# Altium integrated library Analog Devices Operational Amplifiers.IntLib: 2102 symbols (part 64 of 70)
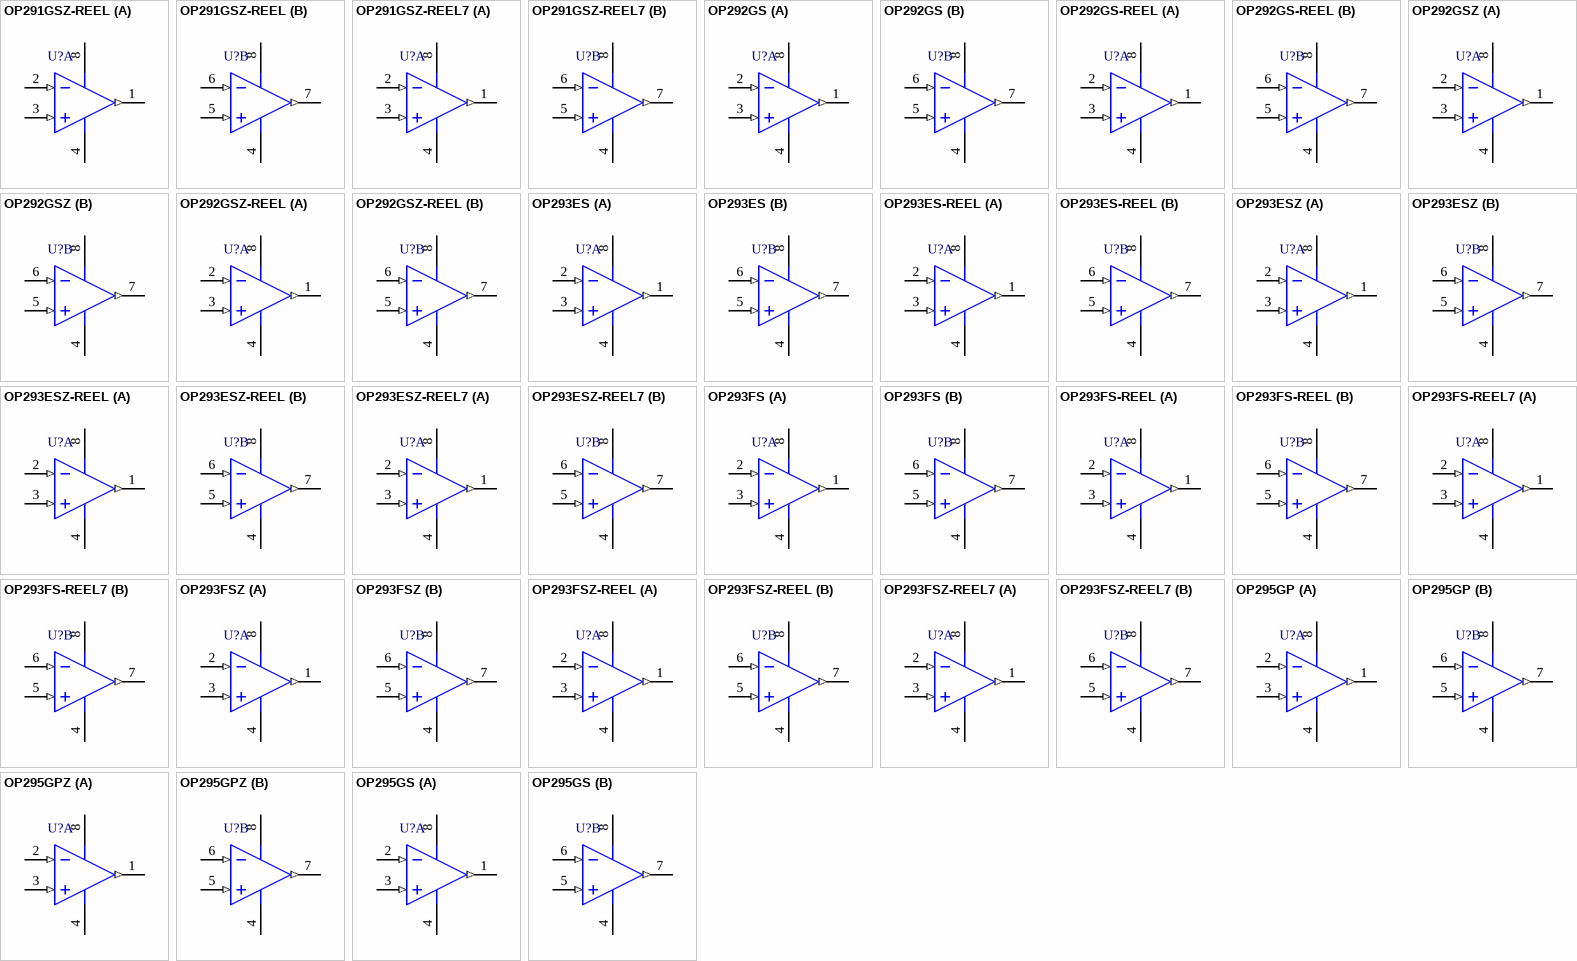
[diagram p177: symbols OP291GSZ-REEL to OP295GS]

## OP292GS-REEL
designator U?
Double Channel Single-Supply Operation Operational Amplifier, 4 MHz BW, 4 V/us SR, Industrial, 8-pin SOIC (R-8), Reel; Generic Part Number: OP292; Manufacturer: Analog Devices; PartNumber: OP292GS-REEL; Amplifiers Per Package: 2; Input Bias Current: 375nA; Input Offset Voltage: 1mV; Iq/Amp: 1.4mA; Slew Rate: 4V/us; Small Signal Bandwidth: 4MHz; V Span Max: 33V; V Span Min: 4.5V; DatasheetVersion: Rev. C; PackageVersion: 060506-A; PackageReference: R-8; PackageDescription: 8-Pin Standard Small Outline Package, Body 3.9 x 4.9 mm, Pitch 1.27 mm; Supplier 1: Digi-Key; Supplier Part Number 1: OP292GS-REEL-ND; Supplier 2: Newark; Supplier Part Number 2: 02H2604; Mounting Technology: Surface Mount; Code_JEDEC: MS-012-AA; ComponentLink1Description: Manufacturer URL; ComponentLink1URL: http://www.analog.com/en/index.html; ComponentLink2Description: Datasheet; ComponentLink2URL: http://www.analog.com/static/imported-files/data_sheets/OP292_492.pdf; ComponentLink3Description: Package Specification; ComponentLink3URL: http://www.analog.com/static/imported-files/packages/PKG_PDF/SOIC_Narrow%20(R)/R_8.pdf
footprint ADI-R-8_N (SOIC, 8-Leads, Body 4.9x3.9mm, Pitch 1.27mm, IPC Medium Density)
footprint ADI-R-8_L (SOIC, 8-Leads, Body 4.9x3.9mm, Pitch 1.27mm, IPC High Density)
footprint ADI-R-8_M (SOIC, 8-Leads, Body 4.9x3.9mm, Pitch 1.27mm, IPC Low Density)
pins on every part: 4 -V (power), 8 +V (power)
part A pins: 1 OUT A (out), 2 -IN A (in), 3 +IN A (in)
part B pins: 5 +IN B (in), 6 -IN B (in), 7 OUT B (out)

## OP292GSZ
designator U?
Double Channel Single-Supply Operation Operational Amplifier, 4 MHz BW, 4 V/us SR, Industrial, 8-pin SOIC (R-8), Tube; Generic Part Number: OP292; Manufacturer: Analog Devices; PartNumber: OP292GSZ; Amplifiers Per Package: 2; Input Bias Current: 375nA; Input Offset Voltage: 1mV; Iq/Amp: 1.4mA; Slew Rate: 4V/us; Small Signal Bandwidth: 4MHz; V Span Max: 33V; V Span Min: 4.5V; DatasheetVersion: Rev. C; PackageVersion: 060506-A; PackageReference: R-8; PackageDescription: 8-Pin Standard Small Outline Package, Body 3.9 x 4.9 mm, Pitch 1.27 mm; Supplier 1: Digi-Key; Supplier Part Number 1: OP292GSZ-ND; Supplier 2: Newark; Supplier Part Number 2: 59K8859; Mounting Technology: Surface Mount; Code_JEDEC: MS-012-AA; ComponentLink1Description: Manufacturer URL; ComponentLink1URL: http://www.analog.com/en/index.html; ComponentLink2Description: Datasheet; ComponentLink2URL: http://www.analog.com/static/imported-files/data_sheets/OP292_492.pdf; ComponentLink3Description: Package Specification; ComponentLink3URL: http://www.analog.com/static/imported-files/packages/PKG_PDF/SOIC_Narrow%20(R)/R_8.pdf
footprint ADI-R-8_N (SOIC, 8-Leads, Body 4.9x3.9mm, Pitch 1.27mm, IPC Medium Density)
footprint ADI-R-8_L (SOIC, 8-Leads, Body 4.9x3.9mm, Pitch 1.27mm, IPC High Density)
footprint ADI-R-8_M (SOIC, 8-Leads, Body 4.9x3.9mm, Pitch 1.27mm, IPC Low Density)
pins on every part: 4 -V (power), 8 +V (power)
part A pins: 1 OUT A (out), 2 -IN A (in), 3 +IN A (in)
part B pins: 5 +IN B (in), 6 -IN B (in), 7 OUT B (out)

## OP292GSZ-REEL
designator U?
Double Channel Single-Supply Operation Operational Amplifier, 4 MHz BW, 4 V/us SR, Industrial, 8-pin SOIC (R-8), Reel; Generic Part Number: OP292; Manufacturer: Analog Devices; PartNumber: OP292GSZ-REEL; Amplifiers Per Package: 2; Input Bias Current: 375nA; Input Offset Voltage: 1mV; Iq/Amp: 1.4mA; Slew Rate: 4V/us; Small Signal Bandwidth: 4MHz; V Span Max: 33V; V Span Min: 4.5V; DatasheetVersion: Rev. C; PackageVersion: 060506-A; PackageReference: R-8; PackageDescription: 8-Pin Standard Small Outline Package, Body 3.9 x 4.9 mm, Pitch 1.27 mm; Supplier 1: Digi-Key; Supplier Part Number 1: OP292GSZ-REEL-ND; Mounting Technology: Surface Mount; Code_JEDEC: MS-012-AA; ComponentLink1Description: Manufacturer URL; ComponentLink1URL: http://www.analog.com/en/index.html; ComponentLink2Description: Datasheet; ComponentLink2URL: http://www.analog.com/static/imported-files/data_sheets/OP292_492.pdf; ComponentLink3Description: Package Specification; ComponentLink3URL: http://www.analog.com/static/imported-files/packages/PKG_PDF/SOIC_Narrow%20(R)/R_8.pdf
footprint ADI-R-8_N (SOIC, 8-Leads, Body 4.9x3.9mm, Pitch 1.27mm, IPC Medium Density)
footprint ADI-R-8_L (SOIC, 8-Leads, Body 4.9x3.9mm, Pitch 1.27mm, IPC High Density)
footprint ADI-R-8_M (SOIC, 8-Leads, Body 4.9x3.9mm, Pitch 1.27mm, IPC Low Density)
pins on every part: 4 -V (power), 8 +V (power)
part A pins: 1 OUT A (out), 2 -IN A (in), 3 +IN A (in)
part B pins: 5 +IN B (in), 6 -IN B (in), 7 OUT B (out)

## OP293ES
designator U?
Double Channel Single-Supply Operation Operational Amplifier, 35 KHz BW, 15 mV/us SR, Industrial, 8-pin SOIC (R-8), Tube; Generic Part Number: OP293; Manufacturer: Analog Devices; PartNumber: OP293ES; Amplifiers Per Package: 2; Input Bias Current: 15nA; Input Offset Voltage: 100uV; Iq/Amp: 30uA; Small Signal Bandwidth: 35KHz; V Span Max: 36V; V Span Min: 1.7V; DatasheetVersion: Rev. C; PackageVersion: 060506-A; PackageReference: R-8; PackageDescription: 8-Pin Standard Small Outline Package, Body 3.9 x 4.9 mm, Pitch 1.27 mm; Supplier 1: Digi-Key; Supplier Part Number 1: OP293ES-ND; Slew Rate: 15mV/us; Mounting Technology: Surface Mount; Code_JEDEC: MS-012-AA; ComponentLink1Description: Manufacturer URL; ComponentLink1URL: http://www.analog.com/en/index.html; ComponentLink2Description: Datasheet; ComponentLink2URL: http://www.analog.com/static/imported-files/data_sheets/OP193_293.pdf; ComponentLink3Description: Package Specification; ComponentLink3URL: http://www.analog.com/static/imported-files/packages/PKG_PDF/SOIC_Narrow%20(R)/R_8.pdf; ComponentLink4Description: Reference Circuit; ComponentLink4URL: http://www.analog.com/en/all-operational-amplifiers-op-amps/operational-amplifiers-op-amps/op293/products/product.html#product-recommendations
footprint ADI-R-8_N (SOIC, 8-Leads, Body 4.9x3.9mm, Pitch 1.27mm, IPC Medium Density)
footprint ADI-R-8_L (SOIC, 8-Leads, Body 4.9x3.9mm, Pitch 1.27mm, IPC High Density)
footprint ADI-R-8_M (SOIC, 8-Leads, Body 4.9x3.9mm, Pitch 1.27mm, IPC Low Density)
pins on every part: 4 -V (power), 8 +V (power)
part A pins: 1 OUT A (out), 2 -IN A (in), 3 +IN A (in)
part B pins: 5 +IN B (in), 6 -IN B (in), 7 OUT B (out)

## OP293ES-REEL
designator U?
Double Channel Single-Supply Operation Operational Amplifier, 35 KHz BW, 15 mV/us SR, Industrial, 8-pin SOIC (R-8), Reel; Generic Part Number: OP293; Manufacturer: Analog Devices; PartNumber: OP293ES-REEL; Amplifiers Per Package: 2; Input Bias Current: 15nA; Input Offset Voltage: 100uV; Iq/Amp: 30uA; Small Signal Bandwidth: 35KHz; V Span Max: 36V; V Span Min: 1.7V; DatasheetVersion: Rev. C; PackageVersion: 060506-A; PackageReference: R-8; PackageDescription: 8-Pin Standard Small Outline Package, Body 3.9 x 4.9 mm, Pitch 1.27 mm; Supplier 1: Digi-Key; Supplier Part Number 1: OP293ES-REEL-ND; Slew Rate: 15mV/us; Mounting Technology: Surface Mount; Code_JEDEC: MS-012-AA; ComponentLink1Description: Manufacturer URL; ComponentLink1URL: http://www.analog.com/en/index.html; ComponentLink2Description: Datasheet; ComponentLink2URL: http://www.analog.com/static/imported-files/data_sheets/OP193_293.pdf; ComponentLink3Description: Package Specification; ComponentLink3URL: http://www.analog.com/static/imported-files/packages/PKG_PDF/SOIC_Narrow%20(R)/R_8.pdf; ComponentLink4Description: Reference Circuit; ComponentLink4URL: http://www.analog.com/en/all-operational-amplifiers-op-amps/operational-amplifiers-op-amps/op293/products/product.html#product-recommendations
footprint ADI-R-8_N (SOIC, 8-Leads, Body 4.9x3.9mm, Pitch 1.27mm, IPC Medium Density)
footprint ADI-R-8_L (SOIC, 8-Leads, Body 4.9x3.9mm, Pitch 1.27mm, IPC High Density)
footprint ADI-R-8_M (SOIC, 8-Leads, Body 4.9x3.9mm, Pitch 1.27mm, IPC Low Density)
pins on every part: 4 -V (power), 8 +V (power)
part A pins: 1 OUT A (out), 2 -IN A (in), 3 +IN A (in)
part B pins: 5 +IN B (in), 6 -IN B (in), 7 OUT B (out)

## OP293ESZ
designator U?
Double Channel Single-Supply Operation Operational Amplifier, 35 KHz BW, 15 mV/us SR, Industrial, 8-pin SOIC (R-8), Tube; Generic Part Number: OP293; Manufacturer: Analog Devices; PartNumber: OP293ESZ; Amplifiers Per Package: 2; Input Bias Current: 15nA; Input Offset Voltage: 100uV; Iq/Amp: 30uA; Small Signal Bandwidth: 35KHz; V Span Max: 36V; V Span Min: 1.7V; DatasheetVersion: Rev. C; PackageVersion: 060506-A; PackageReference: R-8; PackageDescription: 8-Pin Standard Small Outline Package, Body 3.9 x 4.9 mm, Pitch 1.27 mm; Supplier 1: Digi-Key; Supplier Part Number 1: OP293ESZ-ND; Supplier 2: Farnell; Supplier Part Number 2: 1364836; Supplier 3: Newark; Supplier Part Number 3: 59K8861; Slew Rate: 15mV/us; Mounting Technology: Surface Mount; Code_JEDEC: MS-012-AA; ComponentLink1Description: Manufacturer URL; ComponentLink1URL: http://www.analog.com/en/index.html; ComponentLink2Description: Datasheet; ComponentLink2URL: http://www.analog.com/static/imported-files/data_sheets/OP193_293.pdf; ComponentLink3Description: Package Specification; ComponentLink3URL: http://www.analog.com/static/imported-files/packages/PKG_PDF/SOIC_Narrow%20(R)/R_8.pdf; ComponentLink4Description: Reference Circuit; ComponentLink4URL: http://www.analog.com/en/all-operational-amplifiers-op-amps/operational-amplifiers-op-amps/op293/products/product.html#product-recommendations
footprint ADI-R-8_N (SOIC, 8-Leads, Body 4.9x3.9mm, Pitch 1.27mm, IPC Medium Density)
footprint ADI-R-8_L (SOIC, 8-Leads, Body 4.9x3.9mm, Pitch 1.27mm, IPC High Density)
footprint ADI-R-8_M (SOIC, 8-Leads, Body 4.9x3.9mm, Pitch 1.27mm, IPC Low Density)
pins on every part: 4 -V (power), 8 +V (power)
part A pins: 1 OUT A (out), 2 -IN A (in), 3 +IN A (in)
part B pins: 5 +IN B (in), 6 -IN B (in), 7 OUT B (out)

## OP293ESZ-REEL
designator U?
Double Channel Single-Supply Operation Operational Amplifier, 35 KHz BW, 15 mV/us SR, Industrial, 8-pin SOIC (R-8), Reel; Generic Part Number: OP293; Manufacturer: Analog Devices; PartNumber: OP293ESZ-REEL; Amplifiers Per Package: 2; Input Bias Current: 15nA; Input Offset Voltage: 100uV; Iq/Amp: 30uA; Small Signal Bandwidth: 35KHz; V Span Max: 36V; V Span Min: 1.7V; DatasheetVersion: Rev. C; PackageVersion: 060506-A; PackageReference: R-8; PackageDescription: 8-Pin Standard Small Outline Package, Body 3.9 x 4.9 mm, Pitch 1.27 mm; Supplier 1: Digi-Key; Supplier Part Number 1: OP293ESZ-REEL-ND; Slew Rate: 15mV/us; Mounting Technology: Surface Mount; Code_JEDEC: MS-012-AA; ComponentLink1Description: Manufacturer URL; ComponentLink1URL: http://www.analog.com/en/index.html; ComponentLink2Description: Datasheet; ComponentLink2URL: http://www.analog.com/static/imported-files/data_sheets/OP193_293.pdf; ComponentLink3Description: Package Specification; ComponentLink3URL: http://www.analog.com/static/imported-files/packages/PKG_PDF/SOIC_Narrow%20(R)/R_8.pdf; ComponentLink4Description: Reference Circuit; ComponentLink4URL: http://www.analog.com/en/all-operational-amplifiers-op-amps/operational-amplifiers-op-amps/op293/products/product.html#product-recommendations
footprint ADI-R-8_N (SOIC, 8-Leads, Body 4.9x3.9mm, Pitch 1.27mm, IPC Medium Density)
footprint ADI-R-8_L (SOIC, 8-Leads, Body 4.9x3.9mm, Pitch 1.27mm, IPC High Density)
footprint ADI-R-8_M (SOIC, 8-Leads, Body 4.9x3.9mm, Pitch 1.27mm, IPC Low Density)
pins on every part: 4 -V (power), 8 +V (power)
part A pins: 1 OUT A (out), 2 -IN A (in), 3 +IN A (in)
part B pins: 5 +IN B (in), 6 -IN B (in), 7 OUT B (out)

## OP293ESZ-REEL7
designator U?
Double Channel Single-Supply Operation Operational Amplifier, 35 KHz BW, 15 mV/us SR, Industrial, 8-pin SOIC (R-8), Reel; Generic Part Number: OP293; Manufacturer: Analog Devices; PartNumber: OP293ESZ-REEL7; Amplifiers Per Package: 2; Input Bias Current: 15nA; Input Offset Voltage: 100uV; Iq/Amp: 30uA; Small Signal Bandwidth: 35KHz; V Span Max: 36V; V Span Min: 1.7V; DatasheetVersion: Rev. C; PackageVersion: 060506-A; PackageReference: R-8; PackageDescription: 8-Pin Standard Small Outline Package, Body 3.9 x 4.9 mm, Pitch 1.27 mm; Supplier 1: Digi-Key; Supplier Part Number 1: OP293ESZ-REEL7-ND; Supplier 2: Newark; Supplier Part Number 2: 59K8863; Slew Rate: 15mV/us; Mounting Technology: Surface Mount; Code_JEDEC: MS-012-AA; ComponentLink1Description: Manufacturer URL; ComponentLink1URL: http://www.analog.com/en/index.html; ComponentLink2Description: Datasheet; ComponentLink2URL: http://www.analog.com/static/imported-files/data_sheets/OP193_293.pdf; ComponentLink3Description: Package Specification; ComponentLink3URL: http://www.analog.com/static/imported-files/packages/PKG_PDF/SOIC_Narrow%20(R)/R_8.pdf; ComponentLink4Description: Reference Circuit; ComponentLink4URL: http://www.analog.com/en/all-operational-amplifiers-op-amps/operational-amplifiers-op-amps/op293/products/product.html#product-recommendations
footprint ADI-R-8_N (SOIC, 8-Leads, Body 4.9x3.9mm, Pitch 1.27mm, IPC Medium Density)
footprint ADI-R-8_L (SOIC, 8-Leads, Body 4.9x3.9mm, Pitch 1.27mm, IPC High Density)
footprint ADI-R-8_M (SOIC, 8-Leads, Body 4.9x3.9mm, Pitch 1.27mm, IPC Low Density)
pins on every part: 4 -V (power), 8 +V (power)
part A pins: 1 OUT A (out), 2 -IN A (in), 3 +IN A (in)
part B pins: 5 +IN B (in), 6 -IN B (in), 7 OUT B (out)

## OP293FS
designator U?
Double Channel Single-Supply Operation Operational Amplifier, 35 KHz BW, 15 mV/us SR, Industrial, 8-pin SOIC (R-8), Tube; Generic Part Number: OP293; Manufacturer: Analog Devices; PartNumber: OP293FS; Amplifiers Per Package: 2; Input Bias Current: 20nA; Input Offset Voltage: 250uV; Iq/Amp: 30uA; Small Signal Bandwidth: 35KHz; V Span Max: 36V; V Span Min: 1.7V; DatasheetVersion: Rev. C; PackageVersion: 060506-A; PackageReference: R-8; PackageDescription: 8-Pin Standard Small Outline Package, Body 3.9 x 4.9 mm, Pitch 1.27 mm; Supplier 1: Digi-Key; Supplier Part Number 1: OP293FS-ND; Slew Rate: 15mV/us; Mounting Technology: Surface Mount; Code_JEDEC: MS-012-AA; ComponentLink1Description: Manufacturer URL; ComponentLink1URL: http://www.analog.com/en/index.html; ComponentLink2Description: Datasheet; ComponentLink2URL: http://www.analog.com/static/imported-files/data_sheets/OP193_293.pdf; ComponentLink3Description: Package Specification; ComponentLink3URL: http://www.analog.com/static/imported-files/packages/PKG_PDF/SOIC_Narrow%20(R)/R_8.pdf; ComponentLink4Description: Reference Circuit; ComponentLink4URL: http://www.analog.com/en/all-operational-amplifiers-op-amps/operational-amplifiers-op-amps/op293/products/product.html#product-recommendations
footprint ADI-R-8_N (SOIC, 8-Leads, Body 4.9x3.9mm, Pitch 1.27mm, IPC Medium Density)
footprint ADI-R-8_L (SOIC, 8-Leads, Body 4.9x3.9mm, Pitch 1.27mm, IPC High Density)
footprint ADI-R-8_M (SOIC, 8-Leads, Body 4.9x3.9mm, Pitch 1.27mm, IPC Low Density)
pins on every part: 4 -V (power), 8 +V (power)
part A pins: 1 OUT A (out), 2 -IN A (in), 3 +IN A (in)
part B pins: 5 +IN B (in), 6 -IN B (in), 7 OUT B (out)

## OP293FS-REEL
designator U?
Double Channel Single-Supply Operation Operational Amplifier, 35 KHz BW, 15 mV/us SR, Industrial, 8-pin SOIC (R-8), Reel; Generic Part Number: OP293; Manufacturer: Analog Devices; PartNumber: OP293FS-REEL; Amplifiers Per Package: 2; Input Bias Current: 20nA; Input Offset Voltage: 250uV; Iq/Amp: 30uA; Small Signal Bandwidth: 35KHz; V Span Max: 36V; V Span Min: 1.7V; DatasheetVersion: Rev. C; PackageVersion: 060506-A; PackageReference: R-8; PackageDescription: 8-Pin Standard Small Outline Package, Body 3.9 x 4.9 mm, Pitch 1.27 mm; Supplier 1: Digi-Key; Supplier Part Number 1: OP293FS-REEL-ND; Supplier 2: Newark; Supplier Part Number 2: 13B4618; Slew Rate: 15mV/us; Mounting Technology: Surface Mount; Code_JEDEC: MS-012-AA; ComponentLink1Description: Manufacturer URL; ComponentLink1URL: http://www.analog.com/en/index.html; ComponentLink2Description: Datasheet; ComponentLink2URL: http://www.analog.com/static/imported-files/data_sheets/OP193_293.pdf; ComponentLink3Description: Package Specification; ComponentLink3URL: http://www.analog.com/static/imported-files/packages/PKG_PDF/SOIC_Narrow%20(R)/R_8.pdf; ComponentLink4Description: Reference Circuit; ComponentLink4URL: http://www.analog.com/en/all-operational-amplifiers-op-amps/operational-amplifiers-op-amps/op293/products/product.html#product-recommendations
footprint ADI-R-8_N (SOIC, 8-Leads, Body 4.9x3.9mm, Pitch 1.27mm, IPC Medium Density)
footprint ADI-R-8_L (SOIC, 8-Leads, Body 4.9x3.9mm, Pitch 1.27mm, IPC High Density)
footprint ADI-R-8_M (SOIC, 8-Leads, Body 4.9x3.9mm, Pitch 1.27mm, IPC Low Density)
pins on every part: 4 -V (power), 8 +V (power)
part A pins: 1 OUT A (out), 2 -IN A (in), 3 +IN A (in)
part B pins: 5 +IN B (in), 6 -IN B (in), 7 OUT B (out)

## OP293FS-REEL7
designator U?
Double Channel Single-Supply Operation Operational Amplifier, 35 KHz BW, 15 mV/us SR, Industrial, 8-pin SOIC (R-8), Reel; Generic Part Number: OP293; Manufacturer: Analog Devices; PartNumber: OP293FS-REEL7; Amplifiers Per Package: 2; Input Bias Current: 20nA; Input Offset Voltage: 250uV; Iq/Amp: 30uA; Small Signal Bandwidth: 35KHz; V Span Max: 36V; V Span Min: 1.7V; DatasheetVersion: Rev. C; PackageVersion: 060506-A; PackageReference: R-8; PackageDescription: 8-Pin Standard Small Outline Package, Body 3.9 x 4.9 mm, Pitch 1.27 mm; Supplier 1: Digi-Key; Supplier Part Number 1: OP293FS-REEL7TR-ND; Supplier 2: Digi-Key; Supplier Part Number 2: OP293FS-REEL7CT-ND; Supplier 3: Digi-Key; Supplier Part Number 3: OP293FS-REEL7DKR-ND; Supplier 4: Newark; Supplier Part Number 4: 13B4619; Slew Rate: 15mV/us; Mounting Technology: Surface Mount; Code_JEDEC: MS-012-AA; ComponentLink1Description: Manufacturer URL; ComponentLink1URL: http://www.analog.com/en/index.html; ComponentLink2Description: Datasheet; ComponentLink2URL: http://www.analog.com/static/imported-files/data_sheets/OP193_293.pdf; ComponentLink3Description: Package Specification; ComponentLink3URL: http://www.analog.com/static/imported-files/packages/PKG_PDF/SOIC_Narrow%20(R)/R_8.pdf; ComponentLink4Description: Reference Circuit; ComponentLink4URL: http://www.analog.com/en/all-operational-amplifiers-op-amps/operational-amplifiers-op-amps/op293/products/product.html#product-recommendations
footprint ADI-R-8_N (SOIC, 8-Leads, Body 4.9x3.9mm, Pitch 1.27mm, IPC Medium Density)
footprint ADI-R-8_L (SOIC, 8-Leads, Body 4.9x3.9mm, Pitch 1.27mm, IPC High Density)
footprint ADI-R-8_M (SOIC, 8-Leads, Body 4.9x3.9mm, Pitch 1.27mm, IPC Low Density)
pins on every part: 4 -V (power), 8 +V (power)
part A pins: 1 OUT A (out), 2 -IN A (in), 3 +IN A (in)
part B pins: 5 +IN B (in), 6 -IN B (in), 7 OUT B (out)

## OP293FSZ
designator U?
Double Channel Single-Supply Operation Operational Amplifier, 35 KHz BW, 15 mV/us SR, Industrial, 8-pin SOIC (R-8), Tube; Generic Part Number: OP293; Manufacturer: Analog Devices; PartNumber: OP293FSZ; Amplifiers Per Package: 2; Input Bias Current: 20nA; Input Offset Voltage: 250uV; Iq/Amp: 30uA; Small Signal Bandwidth: 35KHz; V Span Max: 36V; V Span Min: 1.7V; DatasheetVersion: Rev. C; PackageVersion: 060506-A; PackageReference: R-8; PackageDescription: 8-Pin Standard Small Outline Package, Body 3.9 x 4.9 mm, Pitch 1.27 mm; Supplier 1: Digi-Key; Supplier Part Number 1: OP293FSZ-ND; Supplier 2: Farnell; Supplier Part Number 2: 9994394; Supplier 3: Newark; Supplier Part Number 3: 59K8865; Slew Rate: 15mV/us; Mounting Technology: Surface Mount; Code_JEDEC: MS-012-AA; ComponentLink1Description: Manufacturer URL; ComponentLink1URL: http://www.analog.com/en/index.html; ComponentLink2Description: Datasheet; ComponentLink2URL: http://www.analog.com/static/imported-files/data_sheets/OP193_293.pdf; ComponentLink3Description: Package Specification; ComponentLink3URL: http://www.analog.com/static/imported-files/packages/PKG_PDF/SOIC_Narrow%20(R)/R_8.pdf; ComponentLink4Description: Reference Circuit; ComponentLink4URL: http://www.analog.com/en/all-operational-amplifiers-op-amps/operational-amplifiers-op-amps/op293/products/product.html#product-recommendations
footprint ADI-R-8_N (SOIC, 8-Leads, Body 4.9x3.9mm, Pitch 1.27mm, IPC Medium Density)
footprint ADI-R-8_L (SOIC, 8-Leads, Body 4.9x3.9mm, Pitch 1.27mm, IPC High Density)
footprint ADI-R-8_M (SOIC, 8-Leads, Body 4.9x3.9mm, Pitch 1.27mm, IPC Low Density)
pins on every part: 4 -V (power), 8 +V (power)
part A pins: 1 OUT A (out), 2 -IN A (in), 3 +IN A (in)
part B pins: 5 +IN B (in), 6 -IN B (in), 7 OUT B (out)

## OP293FSZ-REEL
designator U?
Double Channel Single-Supply Operation Operational Amplifier, 35 KHz BW, 15 mV/us SR, Industrial, 8-pin SOIC (R-8), Reel; Generic Part Number: OP293; Manufacturer: Analog Devices; PartNumber: OP293FSZ-REEL; Amplifiers Per Package: 2; Input Bias Current: 20nA; Input Offset Voltage: 250uV; Iq/Amp: 30uA; Small Signal Bandwidth: 35KHz; V Span Max: 36V; V Span Min: 1.7V; DatasheetVersion: Rev. C; PackageVersion: 060506-A; PackageReference: R-8; PackageDescription: 8-Pin Standard Small Outline Package, Body 3.9 x 4.9 mm, Pitch 1.27 mm; Supplier 1: Digi-Key; Supplier Part Number 1: OP293FSZ-REEL-ND; Supplier 2: Newark; Supplier Part Number 2: 59K8866; Slew Rate: 15mV/us; Mounting Technology: Surface Mount; Code_JEDEC: MS-012-AA; ComponentLink1Description: Manufacturer URL; ComponentLink1URL: http://www.analog.com/en/index.html; ComponentLink2Description: Datasheet; ComponentLink2URL: http://www.analog.com/static/imported-files/data_sheets/OP193_293.pdf; ComponentLink3Description: Package Specification; ComponentLink3URL: http://www.analog.com/static/imported-files/packages/PKG_PDF/SOIC_Narrow%20(R)/R_8.pdf; ComponentLink4Description: Reference Circuit; ComponentLink4URL: http://www.analog.com/en/all-operational-amplifiers-op-amps/operational-amplifiers-op-amps/op293/products/product.html#product-recommendations
footprint ADI-R-8_N (SOIC, 8-Leads, Body 4.9x3.9mm, Pitch 1.27mm, IPC Medium Density)
footprint ADI-R-8_L (SOIC, 8-Leads, Body 4.9x3.9mm, Pitch 1.27mm, IPC High Density)
footprint ADI-R-8_M (SOIC, 8-Leads, Body 4.9x3.9mm, Pitch 1.27mm, IPC Low Density)
pins on every part: 4 -V (power), 8 +V (power)
part A pins: 1 OUT A (out), 2 -IN A (in), 3 +IN A (in)
part B pins: 5 +IN B (in), 6 -IN B (in), 7 OUT B (out)

## OP293FSZ-REEL7
designator U?
Double Channel Single-Supply Operation Operational Amplifier, 35 KHz BW, 15 mV/us SR, Industrial, 8-pin SOIC (R-8), Reel; Generic Part Number: OP293; Manufacturer: Analog Devices; PartNumber: OP293FSZ-REEL7; Amplifiers Per Package: 2; Input Bias Current: 20nA; Input Offset Voltage: 250uV; Iq/Amp: 30uA; Small Signal Bandwidth: 35KHz; V Span Max: 36V; V Span Min: 1.7V; DatasheetVersion: Rev. C; PackageVersion: 060506-A; PackageReference: R-8; PackageDescription: 8-Pin Standard Small Outline Package, Body 3.9 x 4.9 mm, Pitch 1.27 mm; Supplier 1: Digi-Key; Supplier Part Number 1: OP293FSZ-REEL7TR-ND; Supplier 2: Digi-Key; Supplier Part Number 2: OP293FSZ-REEL7CT-ND; Supplier 3: Digi-Key; Supplier Part Number 3: OP293FSZ-REEL7DKR-ND; Supplier 4: Newark; Supplier Part Number 4: 59K8867; Slew Rate: 15mV/us; Mounting Technology: Surface Mount; Code_JEDEC: MS-012-AA; ComponentLink1Description: Manufacturer URL; ComponentLink1URL: http://www.analog.com/en/index.html; ComponentLink2Description: Datasheet; ComponentLink2URL: http://www.analog.com/static/imported-files/data_sheets/OP193_293.pdf; ComponentLink3Description: Package Specification; ComponentLink3URL: http://www.analog.com/static/imported-files/packages/PKG_PDF/SOIC_Narrow%20(R)/R_8.pdf; ComponentLink4Description: Reference Circuit; ComponentLink4URL: http://www.analog.com/en/all-operational-amplifiers-op-amps/operational-amplifiers-op-amps/op293/products/product.html#product-recommendations
footprint ADI-R-8_N (SOIC, 8-Leads, Body 4.9x3.9mm, Pitch 1.27mm, IPC Medium Density)
footprint ADI-R-8_L (SOIC, 8-Leads, Body 4.9x3.9mm, Pitch 1.27mm, IPC High Density)
footprint ADI-R-8_M (SOIC, 8-Leads, Body 4.9x3.9mm, Pitch 1.27mm, IPC Low Density)
pins on every part: 4 -V (power), 8 +V (power)
part A pins: 1 OUT A (out), 2 -IN A (in), 3 +IN A (in)
part B pins: 5 +IN B (in), 6 -IN B (in), 7 OUT B (out)

## OP295GP
designator U?
Double Channel Rail-to-Rail Operational Amplifier, 85 KHz BW, 30 mV/us SR, Industrial, 8-pin DIP (N-8), Tube; Generic Part Number: OP295; Manufacturer: Analog Devices; PartNumber: OP295GP; Amplifiers Per Package: 2; Input Bias Current: 20nA; Input Offset Voltage: 300uV; Iq/Amp: 175uA; Small Signal Bandwidth: 85KHz; V Span Max: 36V; V Span Min: 3V; DatasheetVersion: Rev. G; PackageVersion: 070606-A; PackageReference: N-8; PackageDescription: 8-Pin Plastic Dual In-Line Package, Row spacing 7.62 mm, Pitch 2.54 mm; Supplier 1: Digi-Key; Supplier Part Number 1: OP295GP-ND; Slew Rate: 30mV/us; Mounting Technology: Through Hole; Code_JEDEC: MS-001; ComponentLink1Description: Manufacturer URL; ComponentLink1URL: http://www.analog.com/en/index.html; ComponentLink2Description: Datasheet; ComponentLink2URL: http://www.analog.com/static/imported-files/data_sheets/OP295_495.pdf; ComponentLink3Description: Package Specification; ComponentLink3URL: http:/www.analog.com/static/imported-files/packages/PKG_PDF/PDIP(N)/N_8.pdf
footprint ADI-N-8 (DIP, 8-Leads, Body 9.59x6.6mm, Pitch 2.54mm)
pins on every part: 4 -V (power), 8 +V (power)
part A pins: 1 OUT A (out), 2 -IN A (in), 3 +IN A (in)
part B pins: 5 +IN B (in), 6 -IN B (in), 7 OUT B (out)

## OP295GPZ
designator U?
Double Channel Rail-to-Rail Operational Amplifier, 85 KHz BW, 30 mV/us SR, Industrial, 8-pin DIP (N-8), Tube; Generic Part Number: OP295; Manufacturer: Analog Devices; PartNumber: OP295GPZ; Amplifiers Per Package: 2; Input Bias Current: 20nA; Input Offset Voltage: 300uV; Iq/Amp: 175uA; Small Signal Bandwidth: 85KHz; V Span Max: 36V; V Span Min: 3V; DatasheetVersion: Rev. G; PackageVersion: 070606-A; PackageReference: N-8; PackageDescription: 8-Pin Plastic Dual In-Line Package, Row spacing 7.62 mm, Pitch 2.54 mm; Supplier 1: Digi-Key; Supplier Part Number 1: OP295GPZ-ND; Supplier 2: Farnell; Supplier Part Number 2: 9605258; Supplier 3: Newark; Supplier Part Number 3: 59K8868; Slew Rate: 30mV/us; Mounting Technology: Through Hole; Code_JEDEC: MS-001; ComponentLink1Description: Manufacturer URL; ComponentLink1URL: http://www.analog.com/en/index.html; ComponentLink2Description: Datasheet; ComponentLink2URL: http://www.analog.com/static/imported-files/data_sheets/OP295_495.pdf; ComponentLink3Description: Package Specification; ComponentLink3URL: http:/www.analog.com/static/imported-files/packages/PKG_PDF/PDIP(N)/N_8.pdf
footprint ADI-N-8 (DIP, 8-Leads, Body 9.59x6.6mm, Pitch 2.54mm)
pins on every part: 4 -V (power), 8 +V (power)
part A pins: 1 OUT A (out), 2 -IN A (in), 3 +IN A (in)
part B pins: 5 +IN B (in), 6 -IN B (in), 7 OUT B (out)

## OP295GS
designator U?
Double Channel Rail-to-Rail Operational Amplifier, 85 KHz BW, 30 mV/us SR, Industrial, 8-pin SOIC (R-8), Tube; Generic Part Number: OP295; Manufacturer: Analog Devices; PartNumber: OP295GS; Amplifiers Per Package: 2; Input Bias Current: 20nA; Input Offset Voltage: 300uV; Iq/Amp: 175uA; Small Signal Bandwidth: 85KHz; V Span Max: 36V; V Span Min: 3V; DatasheetVersion: Rev. G; PackageVersion: 060506-A; PackageReference: R-8; PackageDescription: 8-Pin Standard Small Outline Package, Body 3.9 x 4.9 mm, Pitch 1.27 mm; Supplier 1: Digi-Key; Supplier Part Number 1: OP295GS-ND; Slew Rate: 30mV/us; Mounting Technology: Surface Mount; Code_JEDEC: MS-012-AA; ComponentLink1Description: Manufacturer URL; ComponentLink1URL: http://www.analog.com/en/index.html; ComponentLink2Description: Datasheet; ComponentLink2URL: http://www.analog.com/static/imported-files/data_sheets/OP295_495.pdf; ComponentLink3Description: Package Specification; ComponentLink3URL: http://www.analog.com/static/imported-files/packages/PKG_PDF/SOIC_Narrow%20(R)/R_8.pdf
footprint ADI-R-8_N (SOIC, 8-Leads, Body 4.9x3.9mm, Pitch 1.27mm, IPC Medium Density)
footprint ADI-R-8_L (SOIC, 8-Leads, Body 4.9x3.9mm, Pitch 1.27mm, IPC High Density)
footprint ADI-R-8_M (SOIC, 8-Leads, Body 4.9x3.9mm, Pitch 1.27mm, IPC Low Density)
pins on every part: 4 -V (power), 8 +V (power)
part A pins: 1 OUT A (out), 2 -IN A (in), 3 +IN A (in)
part B pins: 5 +IN B (in), 6 -IN B (in), 7 OUT B (out)

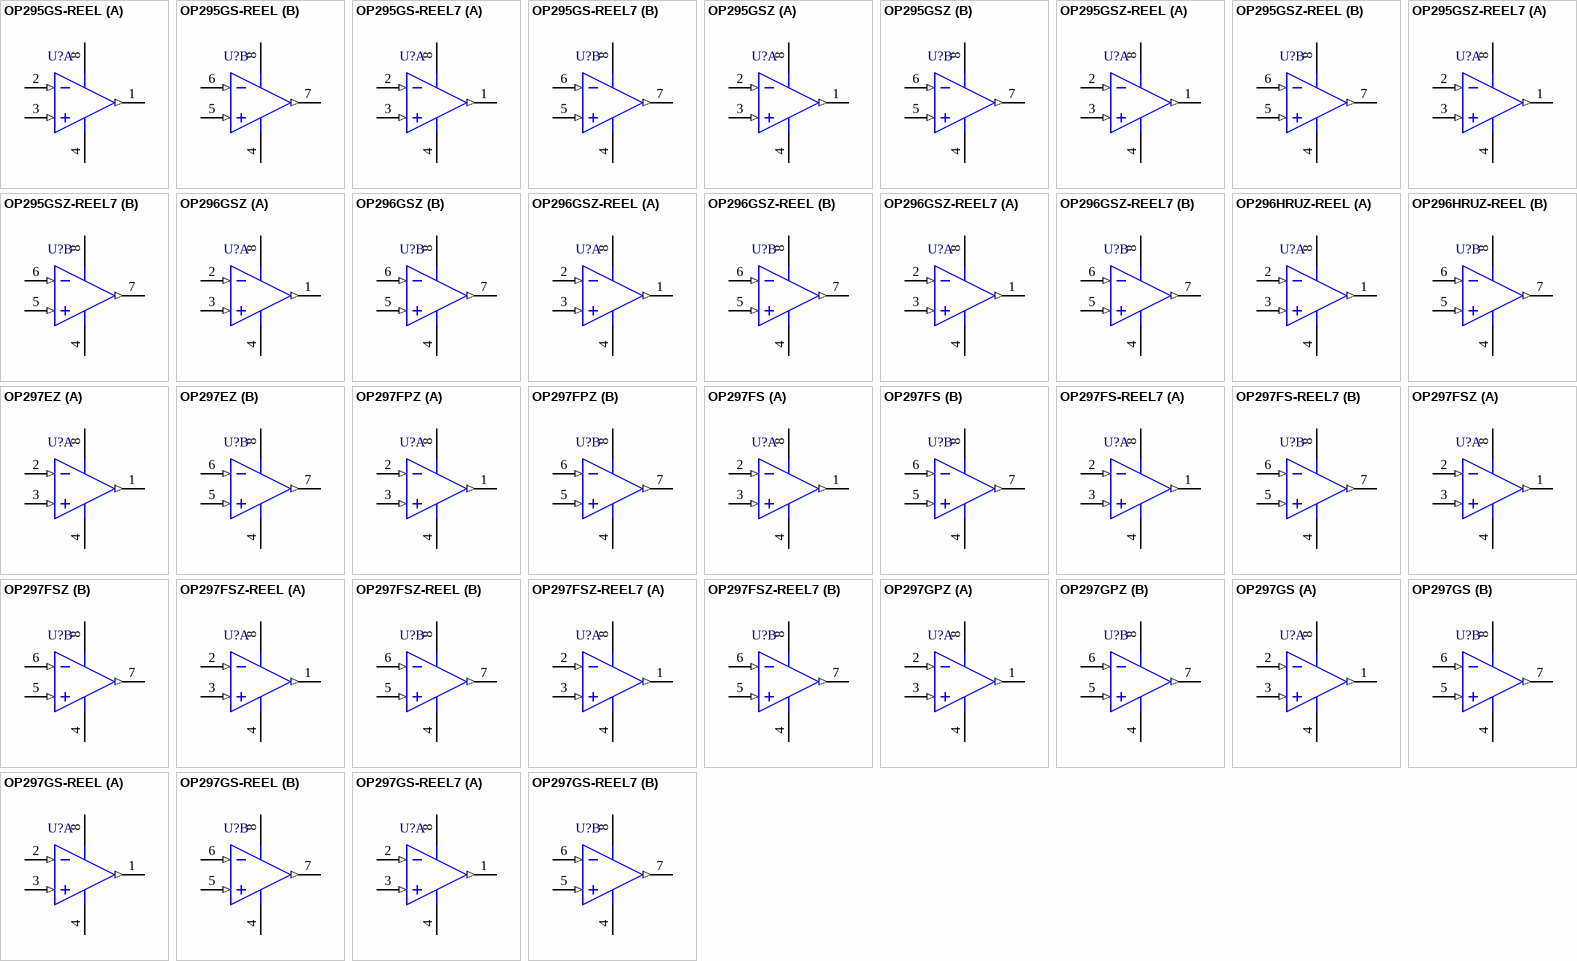
[diagram p99: symbols OP295GS-REEL to OP297GS-REEL7]

## OP295GS-REEL
designator U?
Double Channel Rail-to-Rail Operational Amplifier, 85 KHz BW, 30 mV/us SR, Industrial, 8-pin SOIC (R-8), Reel; Generic Part Number: OP295; Manufacturer: Analog Devices; PartNumber: OP295GS-REEL; Amplifiers Per Package: 2; Input Bias Current: 20nA; Input Offset Voltage: 300uV; Iq/Amp: 175uA; Small Signal Bandwidth: 85KHz; V Span Max: 36V; V Span Min: 3V; DatasheetVersion: Rev. G; PackageVersion: 060506-A; PackageReference: R-8; PackageDescription: 8-Pin Standard Small Outline Package, Body 3.9 x 4.9 mm, Pitch 1.27 mm; Supplier 1: Digi-Key; Supplier Part Number 1: OP295GS-REEL-ND; Supplier 2: Newark; Supplier Part Number 2: 13B4620; Slew Rate: 30mV/us; Mounting Technology: Surface Mount; Code_JEDEC: MS-012-AA; ComponentLink1Description: Manufacturer URL; ComponentLink1URL: http://www.analog.com/en/index.html; ComponentLink2Description: Datasheet; ComponentLink2URL: http://www.analog.com/static/imported-files/data_sheets/OP295_495.pdf; ComponentLink3Description: Package Specification; ComponentLink3URL: http://www.analog.com/static/imported-files/packages/PKG_PDF/SOIC_Narrow%20(R)/R_8.pdf
footprint ADI-R-8_N (SOIC, 8-Leads, Body 4.9x3.9mm, Pitch 1.27mm, IPC Medium Density)
footprint ADI-R-8_L (SOIC, 8-Leads, Body 4.9x3.9mm, Pitch 1.27mm, IPC High Density)
footprint ADI-R-8_M (SOIC, 8-Leads, Body 4.9x3.9mm, Pitch 1.27mm, IPC Low Density)
pins on every part: 4 -V (power), 8 +V (power)
part A pins: 1 OUT A (out), 2 -IN A (in), 3 +IN A (in)
part B pins: 5 +IN B (in), 6 -IN B (in), 7 OUT B (out)

## OP295GS-REEL7
designator U?
Double Channel Rail-to-Rail Operational Amplifier, 85 KHz BW, 30 mV/us SR, Industrial, 8-pin SOIC (R-8), Reel; Generic Part Number: OP295; Manufacturer: Analog Devices; PartNumber: OP295GS-REEL7; Amplifiers Per Package: 2; Input Bias Current: 20nA; Input Offset Voltage: 300uV; Iq/Amp: 175uA; Small Signal Bandwidth: 85KHz; V Span Max: 36V; V Span Min: 3V; DatasheetVersion: Rev. G; PackageVersion: 060506-A; PackageReference: R-8; PackageDescription: 8-Pin Standard Small Outline Package, Body 3.9 x 4.9 mm, Pitch 1.27 mm; Supplier 1: Digi-Key; Supplier Part Number 1: OP295GS-REEL7TR-ND; Supplier 2: Newark; Supplier Part Number 2: 13B4621; Slew Rate: 30mV/us; Mounting Technology: Surface Mount; Code_JEDEC: MS-012-AA; ComponentLink1Description: Manufacturer URL; ComponentLink1URL: http://www.analog.com/en/index.html; ComponentLink2Description: Datasheet; ComponentLink2URL: http://www.analog.com/static/imported-files/data_sheets/OP295_495.pdf; ComponentLink3Description: Package Specification; ComponentLink3URL: http://www.analog.com/static/imported-files/packages/PKG_PDF/SOIC_Narrow%20(R)/R_8.pdf
footprint ADI-R-8_N (SOIC, 8-Leads, Body 4.9x3.9mm, Pitch 1.27mm, IPC Medium Density)
footprint ADI-R-8_L (SOIC, 8-Leads, Body 4.9x3.9mm, Pitch 1.27mm, IPC High Density)
footprint ADI-R-8_M (SOIC, 8-Leads, Body 4.9x3.9mm, Pitch 1.27mm, IPC Low Density)
pins on every part: 4 -V (power), 8 +V (power)
part A pins: 1 OUT A (out), 2 -IN A (in), 3 +IN A (in)
part B pins: 5 +IN B (in), 6 -IN B (in), 7 OUT B (out)

## OP295GSZ
designator U?
Double Channel Rail-to-Rail Operational Amplifier, 85 KHz BW, 30 mV/us SR, Industrial, 8-pin SOIC (R-8), Tube; Generic Part Number: OP295; Manufacturer: Analog Devices; PartNumber: OP295GSZ; Amplifiers Per Package: 2; Input Bias Current: 20nA; Input Offset Voltage: 300uV; Iq/Amp: 175uA; Small Signal Bandwidth: 85KHz; V Span Max: 36V; V Span Min: 3V; DatasheetVersion: Rev. G; PackageVersion: 060506-A; PackageReference: R-8; PackageDescription: 8-Pin Standard Small Outline Package, Body 3.9 x 4.9 mm, Pitch 1.27 mm; Supplier 1: Digi-Key; Supplier Part Number 1: OP295GSZ-ND; Supplier 2: Farnell; Supplier Part Number 2: 9605185; Supplier 3: Newark; Supplier Part Number 3: 59K8869; Slew Rate: 30mV/us; Mounting Technology: Surface Mount; Code_JEDEC: MS-012-AA; ComponentLink1Description: Manufacturer URL; ComponentLink1URL: http://www.analog.com/en/index.html; ComponentLink2Description: Datasheet; ComponentLink2URL: http://www.analog.com/static/imported-files/data_sheets/OP295_495.pdf; ComponentLink3Description: Package Specification; ComponentLink3URL: http://www.analog.com/static/imported-files/packages/PKG_PDF/SOIC_Narrow%20(R)/R_8.pdf
footprint ADI-R-8_N (SOIC, 8-Leads, Body 4.9x3.9mm, Pitch 1.27mm, IPC Medium Density)
footprint ADI-R-8_L (SOIC, 8-Leads, Body 4.9x3.9mm, Pitch 1.27mm, IPC High Density)
footprint ADI-R-8_M (SOIC, 8-Leads, Body 4.9x3.9mm, Pitch 1.27mm, IPC Low Density)
pins on every part: 4 -V (power), 8 +V (power)
part A pins: 1 OUT A (out), 2 -IN A (in), 3 +IN A (in)
part B pins: 5 +IN B (in), 6 -IN B (in), 7 OUT B (out)

## OP295GSZ-REEL
designator U?
Double Channel Rail-to-Rail Operational Amplifier, 85 KHz BW, 30 mV/us SR, Industrial, 8-pin SOIC (R-8), Reel; Generic Part Number: OP295; Manufacturer: Analog Devices; PartNumber: OP295GSZ-REEL; Amplifiers Per Package: 2; Input Bias Current: 20nA; Input Offset Voltage: 300uV; Iq/Amp: 175uA; Small Signal Bandwidth: 85KHz; V Span Max: 36V; V Span Min: 3V; DatasheetVersion: Rev. G; PackageVersion: 060506-A; PackageReference: R-8; PackageDescription: 8-Pin Standard Small Outline Package, Body 3.9 x 4.9 mm, Pitch 1.27 mm; Supplier 1: Digi-Key; Supplier Part Number 1: OP295GSZ-REELTR-ND; Supplier 2: Digi-Key; Supplier Part Number 2: OP295GSZ-REELCT-ND; Supplier 3: Digi-Key; Supplier Part Number 3: OP295GSZ-REELDKR-ND; Supplier 4: Newark; Supplier Part Number 4: 59K8870; Slew Rate: 30mV/us; Mounting Technology: Surface Mount; Code_JEDEC: MS-012-AA; ComponentLink1Description: Manufacturer URL; ComponentLink1URL: http://www.analog.com/en/index.html; ComponentLink2Description: Datasheet; ComponentLink2URL: http://www.analog.com/static/imported-files/data_sheets/OP295_495.pdf; ComponentLink3Description: Package Specification; ComponentLink3URL: http://www.analog.com/static/imported-files/packages/PKG_PDF/SOIC_Narrow%20(R)/R_8.pdf
footprint ADI-R-8_N (SOIC, 8-Leads, Body 4.9x3.9mm, Pitch 1.27mm, IPC Medium Density)
footprint ADI-R-8_L (SOIC, 8-Leads, Body 4.9x3.9mm, Pitch 1.27mm, IPC High Density)
footprint ADI-R-8_M (SOIC, 8-Leads, Body 4.9x3.9mm, Pitch 1.27mm, IPC Low Density)
pins on every part: 4 -V (power), 8 +V (power)
part A pins: 1 OUT A (out), 2 -IN A (in), 3 +IN A (in)
part B pins: 5 +IN B (in), 6 -IN B (in), 7 OUT B (out)

## OP295GSZ-REEL7
designator U?
Double Channel Rail-to-Rail Operational Amplifier, 85 KHz BW, 30 mV/us SR, Industrial, 8-pin SOIC (R-8), Reel; Generic Part Number: OP295; Manufacturer: Analog Devices; PartNumber: OP295GSZ-REEL7; Amplifiers Per Package: 2; Input Bias Current: 20nA; Input Offset Voltage: 300uV; Iq/Amp: 175uA; Small Signal Bandwidth: 85KHz; V Span Max: 36V; V Span Min: 3V; DatasheetVersion: Rev. G; PackageVersion: 060506-A; PackageReference: R-8; PackageDescription: 8-Pin Standard Small Outline Package, Body 3.9 x 4.9 mm, Pitch 1.27 mm; Supplier 1: Digi-Key; Supplier Part Number 1: OP295GSZ-REEL7TR-ND; Supplier 2: Digi-Key; Supplier Part Number 2: OP295GSZ-REEL7CT-ND; Supplier 3: Digi-Key; Supplier Part Number 3: OP295GSZ-REEL7DKR-ND; Supplier 4: Newark; Supplier Part Number 4: 59K8871; Slew Rate: 30mV/us; Mounting Technology: Surface Mount; Code_JEDEC: MS-012-AA; ComponentLink1Description: Manufacturer URL; ComponentLink1URL: http://www.analog.com/en/index.html; ComponentLink2Description: Datasheet; ComponentLink2URL: http://www.analog.com/static/imported-files/data_sheets/OP295_495.pdf; ComponentLink3Description: Package Specification; ComponentLink3URL: http://www.analog.com/static/imported-files/packages/PKG_PDF/SOIC_Narrow%20(R)/R_8.pdf
footprint ADI-R-8_N (SOIC, 8-Leads, Body 4.9x3.9mm, Pitch 1.27mm, IPC Medium Density)
footprint ADI-R-8_L (SOIC, 8-Leads, Body 4.9x3.9mm, Pitch 1.27mm, IPC High Density)
footprint ADI-R-8_M (SOIC, 8-Leads, Body 4.9x3.9mm, Pitch 1.27mm, IPC Low Density)
pins on every part: 4 -V (power), 8 +V (power)
part A pins: 1 OUT A (out), 2 -IN A (in), 3 +IN A (in)
part B pins: 5 +IN B (in), 6 -IN B (in), 7 OUT B (out)

## OP296GSZ
designator U?
Double Channel Single-Supply Operation Operational Amplifier, 450 KHz BW, 300 mV/us SR, Industrial, 8-pin SOIC (R-8), Tube; Generic Part Number: OP296; Manufacturer: Analog Devices; PartNumber: OP296GSZ; Amplifiers Per Package: 2; Input Bias Current: 10nA; Input Offset Voltage: 35uV; Iq/Amp: 60uA; Small Signal Bandwidth: 450KHz; V Span Max: 12V; V Span Min: 3V; DatasheetVersion: Rev. E; PackageVersion: 060506-A; PackageReference: R-8; PackageDescription: 8-Pin Standard Small Outline Package, Body 3.9 x 4.9 mm, Pitch 1.27 mm; Supplier 1: Digi-Key; Supplier Part Number 1: OP296GSZ-ND; Supplier 2: Farnell; Supplier Part Number 2: 9994408; Supplier 3: Newark; Supplier Part Number 3: 59K8872; Slew Rate: 300mV/us; Mounting Technology: Surface Mount; Code_JEDEC: MS-012-AA; ComponentLink1Description: Manufacturer URL; ComponentLink1URL: http://www.analog.com/en/index.html; ComponentLink2Description: Datasheet; ComponentLink2URL: http://www.analog.com/static/imported-files/data_sheets/OP196_296_496.pdf; ComponentLink3Description: Package Specification; ComponentLink3URL: http://www.analog.com/static/imported-files/packages/PKG_PDF/SOIC_Narrow%20(R)/R_8.pdf
footprint ADI-R-8_N (SOIC, 8-Leads, Body 4.9x3.9mm, Pitch 1.27mm, IPC Medium Density)
footprint ADI-R-8_L (SOIC, 8-Leads, Body 4.9x3.9mm, Pitch 1.27mm, IPC High Density)
footprint ADI-R-8_M (SOIC, 8-Leads, Body 4.9x3.9mm, Pitch 1.27mm, IPC Low Density)
pins on every part: 4 -V (power), 8 +V (power)
part A pins: 1 OUT A (out), 2 -IN A (in), 3 +IN A (in)
part B pins: 5 +IN B (in), 6 -IN B (in), 7 OUT B (out)

## OP296GSZ-REEL
designator U?
Double Channel Single-Supply Operation Operational Amplifier, 450 KHz BW, 300 mV/us SR, Industrial, 8-pin SOIC (R-8), Reel; Generic Part Number: OP296; Manufacturer: Analog Devices; PartNumber: OP296GSZ-REEL; Amplifiers Per Package: 2; Input Bias Current: 10nA; Input Offset Voltage: 35uV; Iq/Amp: 60uA; Small Signal Bandwidth: 450KHz; V Span Max: 12V; V Span Min: 3V; DatasheetVersion: Rev. E; PackageVersion: 060506-A; PackageReference: R-8; PackageDescription: 8-Pin Standard Small Outline Package, Body 3.9 x 4.9 mm, Pitch 1.27 mm; Supplier 1: Digi-Key; Supplier Part Number 1: OP296GSZ-REELTR-ND; Supplier 2: Digi-Key; Supplier Part Number 2: OP296GSZ-REELCT-ND; Supplier 3: Digi-Key; Supplier Part Number 3: OP296GSZ-REELDKR-ND; Supplier 4: Newark; Supplier Part Number 4: 59K8873; Slew Rate: 300mV/us; Mounting Technology: Surface Mount; Code_JEDEC: MS-012-AA; ComponentLink1Description: Manufacturer URL; ComponentLink1URL: http://www.analog.com/en/index.html; ComponentLink2Description: Datasheet; ComponentLink2URL: http://www.analog.com/static/imported-files/data_sheets/OP196_296_496.pdf; ComponentLink3Description: Package Specification; ComponentLink3URL: http://www.analog.com/static/imported-files/packages/PKG_PDF/SOIC_Narrow%20(R)/R_8.pdf
footprint ADI-R-8_N (SOIC, 8-Leads, Body 4.9x3.9mm, Pitch 1.27mm, IPC Medium Density)
footprint ADI-R-8_L (SOIC, 8-Leads, Body 4.9x3.9mm, Pitch 1.27mm, IPC High Density)
footprint ADI-R-8_M (SOIC, 8-Leads, Body 4.9x3.9mm, Pitch 1.27mm, IPC Low Density)
pins on every part: 4 -V (power), 8 +V (power)
part A pins: 1 OUT A (out), 2 -IN A (in), 3 +IN A (in)
part B pins: 5 +IN B (in), 6 -IN B (in), 7 OUT B (out)

## OP296GSZ-REEL7
designator U?
Double Channel Single-Supply Operation Operational Amplifier, 450 KHz BW, 300 mV/us SR, Industrial, 8-pin SOIC (R-8), Reel; Generic Part Number: OP296; Manufacturer: Analog Devices; PartNumber: OP296GSZ-REEL7; Amplifiers Per Package: 2; Input Bias Current: 10nA; Input Offset Voltage: 35uV; Iq/Amp: 60uA; Small Signal Bandwidth: 450KHz; V Span Max: 12V; V Span Min: 3V; DatasheetVersion: Rev. E; PackageVersion: 060506-A; PackageReference: R-8; PackageDescription: 8-Pin Standard Small Outline Package, Body 3.9 x 4.9 mm, Pitch 1.27 mm; Supplier 1: Digi-Key; Supplier Part Number 1: OP296GSZ-REEL7-ND; Supplier 2: Newark; Supplier Part Number 2: 59K8874; Slew Rate: 300mV/us; Mounting Technology: Surface Mount; Code_JEDEC: MS-012-AA; ComponentLink1Description: Manufacturer URL; ComponentLink1URL: http://www.analog.com/en/index.html; ComponentLink2Description: Datasheet; ComponentLink2URL: http://www.analog.com/static/imported-files/data_sheets/OP196_296_496.pdf; ComponentLink3Description: Package Specification; ComponentLink3URL: http://www.analog.com/static/imported-files/packages/PKG_PDF/SOIC_Narrow%20(R)/R_8.pdf
footprint ADI-R-8_N (SOIC, 8-Leads, Body 4.9x3.9mm, Pitch 1.27mm, IPC Medium Density)
footprint ADI-R-8_L (SOIC, 8-Leads, Body 4.9x3.9mm, Pitch 1.27mm, IPC High Density)
footprint ADI-R-8_M (SOIC, 8-Leads, Body 4.9x3.9mm, Pitch 1.27mm, IPC Low Density)
pins on every part: 4 -V (power), 8 +V (power)
part A pins: 1 OUT A (out), 2 -IN A (in), 3 +IN A (in)
part B pins: 5 +IN B (in), 6 -IN B (in), 7 OUT B (out)

## OP296HRUZ-REEL
designator U?
Double Channel Single-Supply Operation Operational Amplifier, 450 KHz BW, 300 mV/us SR, Industrial, 8-pin SOP (RU-8), Reel; Generic Part Number: OP296; Manufacturer: Analog Devices; PartNumber: OP296HRUZ-REEL; Amplifiers Per Package: 2; Input Bias Current: 10nA; Input Offset Voltage: 35uV; Iq/Amp: 60uA; Small Signal Bandwidth: 450KHz; V Span Max: 12V; V Span Min: 3V; DatasheetVersion: Rev. E; PackageReference: RU-8; PackageDescription: 8-Pin Thin Shrink Small Outline Package, Body 3 x 4.4 mm, Pitch 0.65 mm; Supplier 1: Digi-Key; Supplier Part Number 1: OP296HRUZ-REELTR-ND; Supplier 2: Digi-Key; Supplier Part Number 2: OP296HRUZ-REELCT-ND; Supplier 3: Digi-Key; Supplier Part Number 3: OP296HRUZ-REELDKR-ND; Supplier 4: Newark; Supplier Part Number 4: 67W2759; Supplier 5: Newark; Supplier Part Number 5: 59K8875; Slew Rate: 300mV/us; Mounting Technology: Surface Mount; Code_JEDEC: MO-153AA; ComponentLink1Description: Manufacturer URL; ComponentLink1URL: http://www.analog.com/en/index.html; ComponentLink2Description: Datasheet; ComponentLink2URL: http://www.analog.com/static/imported-files/data_sheets/OP196_296_496.pdf; ComponentLink3Description: Package Specification; ComponentLink3URL: http://www.analog.com/static/imported-files/packages/359224089841708504863856053953356548880RU08.pdf
footprint ADI-RU-8_N (SOP, 8-Leads, Body 4.4x3mm, Pitch 0.65mm, IPC Medium Density)
footprint ADI-RU-8_L (SOP, 8-Leads, Body 4.4x3mm, Pitch 0.65mm, IPC High Density)
footprint ADI-RU-8_M (SOP, 8-Leads, Body 4.4x3mm, Pitch 0.65mm, IPC Low Density)
pins on every part: 4 -V (power), 8 +V (power)
part A pins: 1 OUT A (out), 2 -IN A (in), 3 +IN A (in)
part B pins: 5 +IN B (in), 6 -IN B (in), 7 OUT B (out)

## OP297EZ
designator U?
Double Channel Very Low Bias Current Operational Amplifier, 500 KHz BW, 150 mV/us SR, Industrial, 8-pin DIP (Q-8), Tube; Generic Part Number: OP297; Manufacturer: Analog Devices; PartNumber: OP297EZ; Amplifiers Per Package: 2; Input Bias Current: 50pA; Input Offset Voltage: 80uV; Iq/Amp: 625uA; Small Signal Bandwidth: 500KHz; V Span Max: 40V; V Span Min: 4V; DatasheetVersion: Rev. G; PackageReference: Q-8; PackageDescription: 8-Pin Ceramic Dual In-Line Package, Row spacing 7.62 mm, Pitch 2.54 mm; Supplier 1: Digi-Key; Supplier Part Number 1: OP297EZ-ND; Supplier 2: Newark; Supplier Part Number 2: 05F8644; Packing: Tube; Slew Rate: 150mV/us; Mounting Technology: Through Hole; ComponentLink1Description: Manufacturer URL; ComponentLink1URL: http://www.analog.com/en/index.html; ComponentLink2Description: Datasheet; ComponentLink2URL: http://www.analog.com/static/imported-files/data_sheets/OP297.pdf; ComponentLink3Description: Package Specification; ComponentLink3URL: http://www.analog.com/static/imported-files/packages/3925655241313314758Q_8.pdf
footprint ADI-Q-8 (DIP, 8-Leads, Body 10.29x6.73mm, Pitch 2.54mm)
pins on every part: 4 -V (power), 8 +V (power)
part A pins: 1 OUT A (out), 2 -IN A (in), 3 +IN A (in)
part B pins: 5 +IN B (in), 6 -IN B (in), 7 OUT B (out)

## OP297FPZ
designator U?
Double Channel Very Low Bias Current Operational Amplifier, 500 KHz BW, 150 mV/us SR, Industrial, 8-pin DIP (N-8), Tube; Generic Part Number: OP297; Manufacturer: Analog Devices; PartNumber: OP297FPZ; Amplifiers Per Package: 2; Input Bias Current: 50pA; Input Offset Voltage: 80uV; Iq/Amp: 625uA; Small Signal Bandwidth: 500KHz; V Span Max: 40V; V Span Min: 4V; DatasheetVersion: Rev. G; PackageVersion: 070606-A; PackageReference: N-8; PackageDescription: 8-Pin Plastic Dual In-Line Package, Row spacing 7.62 mm, Pitch 2.54 mm; Supplier 1: Digi-Key; Supplier Part Number 1: OP297FPZ-ND; Supplier 2: Farnell; Supplier Part Number 2: 9604740; Supplier 3: Newark; Supplier Part Number 3: 59K8876; Packing: Tube; Slew Rate: 150mV/us; Mounting Technology: Through Hole; Code_JEDEC: MS-001; ComponentLink1Description: Manufacturer URL; ComponentLink1URL: http://www.analog.com/en/index.html; ComponentLink2Description: Datasheet; ComponentLink2URL: http://www.analog.com/static/imported-files/data_sheets/OP297.pdf; ComponentLink3Description: Package Specification; ComponentLink3URL: http:/www.analog.com/static/imported-files/packages/PKG_PDF/PDIP(N)/N_8.pdf
footprint ADI-N-8 (DIP, 8-Leads, Body 9.59x6.6mm, Pitch 2.54mm)
pins on every part: 4 -V (power), 8 +V (power)
part A pins: 1 OUT A (out), 2 -IN A (in), 3 +IN A (in)
part B pins: 5 +IN B (in), 6 -IN B (in), 7 OUT B (out)

## OP297FS
designator U?
Double Channel Very Low Bias Current Operational Amplifier, 500 KHz BW, 150 mV/us SR, Industrial, 8-pin SOIC (R-8), Tube; Generic Part Number: OP297; Manufacturer: Analog Devices; PartNumber: OP297FS; Amplifiers Per Package: 2; Input Bias Current: 50pA; Input Offset Voltage: 80uV; Iq/Amp: 625uA; Small Signal Bandwidth: 500KHz; V Span Max: 40V; V Span Min: 4V; DatasheetVersion: Rev. G; PackageVersion: 060506-A; PackageReference: R-8; PackageDescription: 8-Pin Standard Small Outline Package, Body 3.9 x 4.9 mm, Pitch 1.27 mm; Supplier 1: Digi-Key; Supplier Part Number 1: OP297FS-ND; Packing: Tube; Slew Rate: 150mV/us; Mounting Technology: Surface Mount; Code_JEDEC: MS-012-AA; ComponentLink1Description: Manufacturer URL; ComponentLink1URL: http://www.analog.com/en/index.html; ComponentLink2Description: Datasheet; ComponentLink2URL: http://www.analog.com/static/imported-files/data_sheets/OP297.pdf; ComponentLink3Description: Package Specification; ComponentLink3URL: http://www.analog.com/static/imported-files/packages/PKG_PDF/SOIC_Narrow%20(R)/R_8.pdf
footprint ADI-R-8_N (SOIC, 8-Leads, Body 4.9x3.9mm, Pitch 1.27mm, IPC Medium Density)
footprint ADI-R-8_L (SOIC, 8-Leads, Body 4.9x3.9mm, Pitch 1.27mm, IPC High Density)
footprint ADI-R-8_M (SOIC, 8-Leads, Body 4.9x3.9mm, Pitch 1.27mm, IPC Low Density)
pins on every part: 4 -V (power), 8 +V (power)
part A pins: 1 OUT A (out), 2 -IN A (in), 3 +IN A (in)
part B pins: 5 +IN B (in), 6 -IN B (in), 7 OUT B (out)

## OP297FS-REEL7
designator U?
Double Channel Very Low Bias Current Operational Amplifier, 500 KHz BW, 150 mV/us SR, Industrial, 8-pin SOIC (R-8), Reel; Generic Part Number: OP297; Manufacturer: Analog Devices; PartNumber: OP297FS-REEL7; Amplifiers Per Package: 2; Input Bias Current: 50pA; Input Offset Voltage: 80uV; Iq/Amp: 625uA; Small Signal Bandwidth: 500KHz; V Span Max: 40V; V Span Min: 4V; DatasheetVersion: Rev. G; PackageVersion: 060506-A; PackageReference: R-8; PackageDescription: 8-Pin Standard Small Outline Package, Body 3.9 x 4.9 mm, Pitch 1.27 mm; Supplier 1: Digi-Key; Supplier Part Number 1: OP297FS-REEL7-ND; Supplier 2: Newark; Supplier Part Number 2: 13B4627; Packing: Reel; Slew Rate: 150mV/us; Mounting Technology: Surface Mount; Code_JEDEC: MS-012-AA; ComponentLink1Description: Manufacturer URL; ComponentLink1URL: http://www.analog.com/en/index.html; ComponentLink2Description: Datasheet; ComponentLink2URL: http://www.analog.com/static/imported-files/data_sheets/OP297.pdf; ComponentLink3Description: Package Specification; ComponentLink3URL: http://www.analog.com/static/imported-files/packages/PKG_PDF/SOIC_Narrow%20(R)/R_8.pdf
footprint ADI-R-8_N (SOIC, 8-Leads, Body 4.9x3.9mm, Pitch 1.27mm, IPC Medium Density)
footprint ADI-R-8_L (SOIC, 8-Leads, Body 4.9x3.9mm, Pitch 1.27mm, IPC High Density)
footprint ADI-R-8_M (SOIC, 8-Leads, Body 4.9x3.9mm, Pitch 1.27mm, IPC Low Density)
pins on every part: 4 -V (power), 8 +V (power)
part A pins: 1 OUT A (out), 2 -IN A (in), 3 +IN A (in)
part B pins: 5 +IN B (in), 6 -IN B (in), 7 OUT B (out)